# Altium integrated library WCAP-PSLP.IntLib: 57 symbols (part 1 of 2)
Pins are listed as number, name and electrical type; pins without a type are passive.

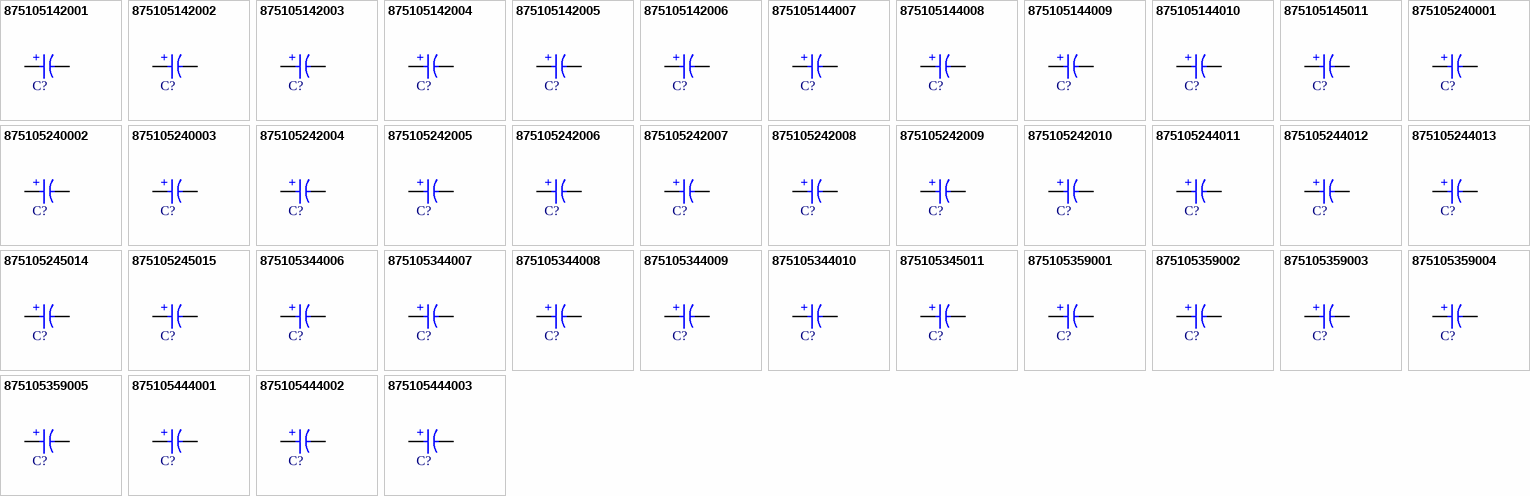
[diagram p0: symbols 875105142001 to 875105444003]

## 875105142001
designator C?, comment 47µF  (value not drawn)
WCAP-PSLP Aluminum Polymer Capacitor, V-Chip SMT, D5 x H5.5mm, 47µF, 6.3V; Manufacturer Part Number: 875105142001; Manufacturer: Wurth Elektronik; Capacitance Tolerance: +/-20%; Dissipation Factor: 8%; Endurance: 2000h; ESR: 30mΩ; Leakage Current: 300µA; Ripple Current: 1970mA; Technical Reference: PSEC055470M6R3DVCTBB000; Category: Aluminum Polymer Capacitors; Match Code: WCAP-PSLP; ComponentLink1Description: Website Link; ComponentLink1URL: https://www.we-online.com/redexpert/article/875105142001?ad; ComponentLink2Description: Datasheet Link; ComponentLink2URL: https://www.we-online.com/redexpert/spec/875105142001?ad; Mount: Surface Mount; Operating Temperature Max: 105°C; Operating Temperature Min: -55°C; Packaging: Tape and Reel; Height: 5.5mm; Diameter: 5mm; Capacitance: 47µF; Rated Voltage (DC): 6.3V
footprint WCAP-PSLP_D5H5.5
simulation model 875105142001_47uF
pins: 1 P, 2 N
text: +

## 875105142002
designator C?, comment 56µF  (value not drawn)
WCAP-PSLP Aluminum Polymer Capacitor, V-Chip SMT, D5 x H5.5mm, 56µF, 6.3V; Manufacturer Part Number: 875105142002; Manufacturer: Wurth Elektronik; Capacitance Tolerance: +/-20%; Dissipation Factor: 8%; Endurance: 2000h; ESR: 30mΩ; Leakage Current: 300µA; Ripple Current: 1970mA; Technical Reference: PSEC055560M6R3DVCTBB000; Category: Aluminum Polymer Capacitors; Match Code: WCAP-PSLP; ComponentLink1Description: Website Link; ComponentLink1URL: https://www.we-online.com/redexpert/article/875105142002?ad; ComponentLink2Description: Datasheet Link; ComponentLink2URL: https://www.we-online.com/redexpert/spec/875105142002?ad; Mount: Surface Mount; Operating Temperature Max: 105°C; Operating Temperature Min: -55°C; Packaging: Tape and Reel; Height: 5.5mm; Diameter: 5mm; Capacitance: 56µF; Rated Voltage (DC): 6.3V
footprint WCAP-PSLP_D5H5.5
simulation model 875105142002_56uF
pins: 1 P, 2 N
text: +

## 875105142003
designator C?, comment 68µF  (value not drawn)
WCAP-PSLP Aluminum Polymer Capacitor, V-Chip SMT, D5 x H5.5mm, 68µF, 6.3V; Manufacturer Part Number: 875105142003; Manufacturer: Wurth Elektronik; Capacitance Tolerance: +/-20%; Dissipation Factor: 8%; Endurance: 2000h; ESR: 30mΩ; Leakage Current: 300µA; Ripple Current: 1970mA; Technical Reference: PSEC055680M6R3DVCTBB000; Category: Aluminum Polymer Capacitors; Match Code: WCAP-PSLP; ComponentLink1Description: Website Link; ComponentLink1URL: https://www.we-online.com/redexpert/article/875105142003?ad; ComponentLink2Description: Datasheet Link; ComponentLink2URL: https://www.we-online.com/redexpert/spec/875105142003?ad; Mount: Surface Mount; Operating Temperature Max: 105°C; Operating Temperature Min: -55°C; Packaging: Tape and Reel; Height: 5.5mm; Diameter: 5mm; Capacitance: 68µF; Rated Voltage (DC): 6.3V
footprint WCAP-PSLP_D5H5.5
simulation model 875105142003_68uF
pins: 1 P, 2 N
text: +

## 875105142004
designator C?, comment 82µF  (value not drawn)
WCAP-PSLP Aluminum Polymer Capacitor, V-Chip SMT, D5 x H5.5mm, 82µF, 6.3V; Manufacturer Part Number: 875105142004; Manufacturer: Wurth Elektronik; Capacitance Tolerance: +/-20%; Dissipation Factor: 8%; Endurance: 2000h; ESR: 30mΩ; Leakage Current: 300µA; Ripple Current: 1970mA; Technical Reference: PSEC055820M6R3DVCTBB000; Category: Aluminum Polymer Capacitors; Match Code: WCAP-PSLP; ComponentLink1Description: Website Link; ComponentLink1URL: https://www.we-online.com/redexpert/article/875105142004?ad; ComponentLink2Description: Datasheet Link; ComponentLink2URL: https://www.we-online.com/redexpert/spec/875105142004?ad; Mount: Surface Mount; Operating Temperature Max: 105°C; Operating Temperature Min: -55°C; Packaging: Tape and Reel; Height: 5.5mm; Diameter: 5mm; Capacitance: 82µF; Rated Voltage (DC): 6.3V
footprint WCAP-PSLP_D5H5.5
simulation model 875105142004_82uF
pins: 1 P, 2 N
text: +

## 875105142005
designator C?, comment 100µF  (value not drawn)
WCAP-PSLP Aluminum Polymer Capacitor, V-Chip SMT, D5 x H5.5mm, 100µF, 6.3V; Manufacturer Part Number: 875105142005; Manufacturer: Wurth Elektronik; Capacitance Tolerance: +/-20%; Dissipation Factor: 8%; Endurance: 2000h; ESR: 30mΩ; Leakage Current: 300µA; Ripple Current: 1970mA; Technical Reference: PSEC055101M6R3DVCTBB000; Category: Aluminum Polymer Capacitors; Match Code: WCAP-PSLP; ComponentLink1Description: Website Link; ComponentLink1URL: https://www.we-online.com/redexpert/article/875105142005?ad; ComponentLink2Description: Datasheet Link; ComponentLink2URL: https://www.we-online.com/redexpert/spec/875105142005?ad; Mount: Surface Mount; Operating Temperature Max: 105°C; Operating Temperature Min: -55°C; Packaging: Tape and Reel; Height: 5.5mm; Diameter: 5mm; Capacitance: 100µF; Rated Voltage (DC): 6.3V
footprint WCAP-PSLP_D5H5.5
simulation model 875105142005_100uF
pins: 1 P, 2 N
text: +

## 875105142006
designator C?, comment 150µF  (value not drawn)
WCAP-PSLP Aluminum Polymer Capacitor, V-Chip SMT, D5 x H5.5mm, 150µF, 6.3V; Manufacturer Part Number: 875105142006; Manufacturer: Wurth Elektronik; Capacitance Tolerance: +/-20%; Dissipation Factor: 8%; Endurance: 2000h; ESR: 30mΩ; Leakage Current: 300µA; Ripple Current: 1970mA; Technical Reference: PSEC055151M6R3DVCTBB000; Category: Aluminum Polymer Capacitors; Match Code: WCAP-PSLP; ComponentLink1Description: Website Link; ComponentLink1URL: https://www.we-online.com/redexpert/article/875105142006?ad; ComponentLink2Description: Datasheet Link; ComponentLink2URL: https://www.we-online.com/redexpert/spec/875105142006?ad; Mount: Surface Mount; Operating Temperature Max: 105°C; Operating Temperature Min: -55°C; Packaging: Tape and Reel; Height: 5.5mm; Diameter: 5mm; Capacitance: 150µF; Rated Voltage (DC): 6.3V
footprint WCAP-PSLP_D5H5.5
simulation model 875105142006_150uF
pins: 1 P, 2 N
text: +

## 875105144007
designator C?, comment 180µF  (value not drawn)
WCAP-PSLP Aluminum Polymer Capacitor, V-Chip SMT, D6.3 x H5.8mm, 180µF, 6.3V; Manufacturer Part Number: 875105144007; Manufacturer: Wurth Elektronik; Capacitance Tolerance: +/-20%; Dissipation Factor: 8%; Endurance: 2000h; ESR: 20mΩ; Leakage Current: 300µA; Ripple Current: 2390mA; Technical Reference: PSED058181M6R3DVCTBB000; Category: Aluminum Polymer Capacitors; Match Code: WCAP-PSLP; ComponentLink1Description: Website Link; ComponentLink1URL: https://www.we-online.com/redexpert/article/875105144007?ad; ComponentLink2Description: Datasheet Link; ComponentLink2URL: https://www.we-online.com/redexpert/spec/875105144007?ad; Mount: Surface Mount; Operating Temperature Max: 105°C; Operating Temperature Min: -55°C; Packaging: Tape and Reel; Height: 5.8mm; Diameter: 6.3mm; Capacitance: 180µF; Rated Voltage (DC): 6.3V
footprint WCAP-PSLP_D6.3H5.8
simulation model 875105144007_180uF
pins: 1 P, 2 N
text: +

## 875105144008
designator C?, comment 220µF  (value not drawn)
WCAP-PSLP Aluminum Polymer Capacitor, V-Chip SMT, D6.3 x H5.8mm, 220µF, 6.3V; Manufacturer Part Number: 875105144008; Manufacturer: Wurth Elektronik; Capacitance Tolerance: +/-20%; Dissipation Factor: 8%; Endurance: 2000h; ESR: 20mΩ; Leakage Current: 300µA; Ripple Current: 3000mA; Technical Reference: PSED058221M6R3DVCTBB000; Category: Aluminum Polymer Capacitors; Match Code: WCAP-PSLP; ComponentLink1Description: Website Link; ComponentLink1URL: https://www.we-online.com/redexpert/article/875105144008?ad; ComponentLink2Description: Datasheet Link; ComponentLink2URL: https://www.we-online.com/redexpert/spec/875105144008?ad; Mount: Surface Mount; Operating Temperature Max: 105°C; Operating Temperature Min: -55°C; Packaging: Tape and Reel; Height: 5.8mm; Diameter: 6.3mm; Capacitance: 220µF; Rated Voltage (DC): 6.3V
footprint WCAP-PSLP_D6.3H5.8
simulation model 875105144008_220uF
pins: 1 P, 2 N
text: +

## 875105144009
designator C?, comment 270µF  (value not drawn)
WCAP-PSLP Aluminum Polymer Capacitor, V-Chip SMT, D6.3 x H5.8mm, 270µF, 6.3V; Manufacturer Part Number: 875105144009; Manufacturer: Wurth Elektronik; Capacitance Tolerance: +/-20%; Dissipation Factor: 8%; Endurance: 2000h; ESR: 20mΩ; Leakage Current: 300µA; Ripple Current: 3000mA; Technical Reference: PSED058271M6R3DVCTBB000; Category: Aluminum Polymer Capacitors; Match Code: WCAP-PSLP; ComponentLink1Description: Website Link; ComponentLink1URL: https://www.we-online.com/redexpert/article/875105144009?ad; ComponentLink2Description: Datasheet Link; ComponentLink2URL: https://www.we-online.com/redexpert/spec/875105144009?ad; Mount: Surface Mount; Operating Temperature Max: 105°C; Operating Temperature Min: -55°C; Packaging: Tape and Reel; Height: 5.8mm; Diameter: 6.3mm; Capacitance: 270µF; Rated Voltage (DC): 6.3V
footprint WCAP-PSLP_D6.3H5.8
simulation model 875105144009_270uF
pins: 1 P, 2 N
text: +

## 875105144010
designator C?, comment 330µF  (value not drawn)
WCAP-PSLP Aluminum Polymer Capacitor, V-Chip SMT, D6.3 x H5.8mm, 330µF, 6.3V; Manufacturer Part Number: 875105144010; Manufacturer: Wurth Elektronik; Capacitance Tolerance: +/-20%; Dissipation Factor: 8%; Endurance: 2000h; ESR: 20mΩ; Leakage Current: 300µA; Ripple Current: 3100mA; Technical Reference: PSED058331M6R3DVCTBB000; Category: Aluminum Polymer Capacitors; Match Code: WCAP-PSLP; ComponentLink1Description: Website Link; ComponentLink1URL: https://www.we-online.com/redexpert/article/875105144010?ad; ComponentLink2Description: Datasheet Link; ComponentLink2URL: https://www.we-online.com/redexpert/spec/875105144010?ad; Mount: Surface Mount; Operating Temperature Max: 105°C; Operating Temperature Min: -55°C; Packaging: Tape and Reel; Height: 5.8mm; Diameter: 6.3mm; Capacitance: 330µF; Rated Voltage (DC): 6.3V
footprint WCAP-PSLP_D6.3H5.8
simulation model 875105144010_330uF
pins: 1 P, 2 N
text: +

## 875105145011
designator C?, comment 390µF  (value not drawn)
WCAP-PSLP Aluminum Polymer Capacitor, V-Chip SMT, D6.3 x H7.7mm, 390µF, 6.3V; Manufacturer Part Number: 875105145011; Manufacturer: Wurth Elektronik; Capacitance Tolerance: +/-20%; Dissipation Factor: 8%; Endurance: 2000h; ESR: 15mΩ; Leakage Current: 300µA; Ripple Current: 3400mA; Technical Reference: PSED077391M6R3DVCTCB000; Category: Aluminum Polymer Capacitors; Match Code: WCAP-PSLP; ComponentLink1Description: Website Link; ComponentLink1URL: https://www.we-online.com/redexpert/article/875105145011?ad; ComponentLink2Description: Datasheet Link; ComponentLink2URL: https://www.we-online.com/redexpert/spec/875105145011?ad; Mount: Surface Mount; Operating Temperature Max: 105°C; Operating Temperature Min: -55°C; Packaging: Tape and Reel; Height: 7.7mm; Diameter: 6.3mm; Capacitance: 390µF; Rated Voltage (DC): 6.3V
footprint WCAP-PSLP_D6.3H7.7
simulation model 875105145011_390uF
pins: 1 P, 2 N
text: +

## 875105240001
designator C?, comment 10µF  (value not drawn)
WCAP-PSLP Aluminum Polymer Capacitor, V-Chip SMT, D4 x H5.5mm, 10µF, 10V; Manufacturer Part Number: 875105240001; Manufacturer: Wurth Elektronik; Capacitance Tolerance: +/-20%; Dissipation Factor: 8%; Endurance: 2000h; ESR: 45mΩ; Leakage Current: 300µA; Ripple Current: 1200mA; Technical Reference: PSEB055100M010DVCTAB000; Category: Aluminum Polymer Capacitors; Match Code: WCAP-PSLP; ComponentLink1Description: Website Link; ComponentLink1URL: https://www.we-online.com/redexpert/article/875105240001?ad; ComponentLink2Description: Datasheet Link; ComponentLink2URL: https://www.we-online.com/redexpert/spec/875105240001?ad; Mount: Surface Mount; Operating Temperature Max: 105°C; Operating Temperature Min: -55°C; Packaging: Tape and Reel; Height: 5.5mm; Diameter: 4mm; Capacitance: 10µF; Rated Voltage (DC): 10V
footprint WCAP-PSLP_D4H5.5
simulation model 875105240001_10uF
pins: 1 P, 2 N
text: +

## 875105240002
designator C?, comment 15µF  (value not drawn)
WCAP-PSLP Aluminum Polymer Capacitor, V-Chip SMT, D4 x H5.5mm, 15µF, 10V; Manufacturer Part Number: 875105240002; Manufacturer: Wurth Elektronik; Capacitance Tolerance: +/-20%; Dissipation Factor: 8%; Endurance: 2000h; ESR: 45mΩ; Leakage Current: 300µA; Ripple Current: 1200mA; Technical Reference: PSEB055150M010DVCTAB000; Category: Aluminum Polymer Capacitors; Match Code: WCAP-PSLP; ComponentLink1Description: Website Link; ComponentLink1URL: https://www.we-online.com/redexpert/article/875105240002?ad; ComponentLink2Description: Datasheet Link; ComponentLink2URL: https://www.we-online.com/redexpert/spec/875105240002?ad; Mount: Surface Mount; Operating Temperature Max: 105°C; Operating Temperature Min: -55°C; Packaging: Tape and Reel; Height: 5.5mm; Diameter: 4mm; Capacitance: 15µF; Rated Voltage (DC): 10V
footprint WCAP-PSLP_D4H5.5
simulation model 875105240002_15uF
pins: 1 P, 2 N
text: +

## 875105240003
designator C?, comment 22µF  (value not drawn)
WCAP-PSLP Aluminum Polymer Capacitor, V-Chip SMT, D4 x H5.5mm, 22µF, 10V; Manufacturer Part Number: 875105240003; Manufacturer: Wurth Elektronik; Capacitance Tolerance: +/-20%; Dissipation Factor: 8%; Endurance: 2000h; ESR: 45mΩ; Leakage Current: 300µA; Ripple Current: 1200mA; Technical Reference: PSEB055220M010DVCTAB000; Category: Aluminum Polymer Capacitors; Match Code: WCAP-PSLP; ComponentLink1Description: Website Link; ComponentLink1URL: https://www.we-online.com/redexpert/article/875105240003?ad; ComponentLink2Description: Datasheet Link; ComponentLink2URL: https://www.we-online.com/redexpert/spec/875105240003?ad; Mount: Surface Mount; Operating Temperature Max: 105°C; Operating Temperature Min: -55°C; Packaging: Tape and Reel; Height: 5.5mm; Diameter: 4mm; Capacitance: 22µF; Rated Voltage (DC): 10V
footprint WCAP-PSLP_D4H5.5
simulation model 875105240003_22uF
pins: 1 P, 2 N
text: +

## 875105242004
designator C?, comment 33µF  (value not drawn)
WCAP-PSLP Aluminum Polymer Capacitor, V-Chip SMT, D5 x H5.5mm, 33µF, 10V; Manufacturer Part Number: 875105242004; Manufacturer: Wurth Elektronik; Capacitance Tolerance: +/-20%; Dissipation Factor: 8%; Endurance: 2000h; ESR: 30mΩ; Leakage Current: 300µA; Ripple Current: 1970mA; Technical Reference: PSEC055330M010DVCTBB000; Category: Aluminum Polymer Capacitors; Match Code: WCAP-PSLP; ComponentLink1Description: Website Link; ComponentLink1URL: https://www.we-online.com/redexpert/article/875105242004?ad; ComponentLink2Description: Datasheet Link; ComponentLink2URL: https://www.we-online.com/redexpert/spec/875105242004?ad; Mount: Surface Mount; Operating Temperature Max: 105°C; Operating Temperature Min: -55°C; Packaging: Tape and Reel; Height: 5.5mm; Diameter: 5mm; Capacitance: 33µF; Rated Voltage (DC): 10V
footprint WCAP-PSLP_D5H5.5
simulation model 875105242004_33uF
pins: 1 P, 2 N
text: +

## 875105242005
designator C?, comment 39µF  (value not drawn)
WCAP-PSLP Aluminum Polymer Capacitor, V-Chip SMT, D5 x H5.5mm, 39µF, 10V; Manufacturer Part Number: 875105242005; Manufacturer: Wurth Elektronik; Capacitance Tolerance: +/-20%; Dissipation Factor: 8%; Endurance: 2000h; ESR: 30mΩ; Leakage Current: 300µA; Ripple Current: 1970mA; Technical Reference: PSEC055390M010DVCTBB000; Category: Aluminum Polymer Capacitors; Match Code: WCAP-PSLP; ComponentLink1Description: Website Link; ComponentLink1URL: https://www.we-online.com/redexpert/article/875105242005?ad; ComponentLink2Description: Datasheet Link; ComponentLink2URL: https://www.we-online.com/redexpert/spec/875105242005?ad; Mount: Surface Mount; Operating Temperature Max: 105°C; Operating Temperature Min: -55°C; Packaging: Tape and Reel; Height: 5.5mm; Diameter: 5mm; Capacitance: 39µF; Rated Voltage (DC): 10V
footprint WCAP-PSLP_D5H5.5
simulation model 875105242005_39uF
pins: 1 P, 2 N
text: +

## 875105242006
designator C?, comment 47µF  (value not drawn)
WCAP-PSLP Aluminum Polymer Capacitor, V-Chip SMT, D5 x H5.5mm, 47µF, 10V; Manufacturer Part Number: 875105242006; Manufacturer: Wurth Elektronik; Capacitance Tolerance: +/-20%; Dissipation Factor: 8%; Endurance: 2000h; ESR: 30mΩ; Leakage Current: 300µA; Ripple Current: 1970mA; Technical Reference: PSEC055470M010DVCTBB000; Category: Aluminum Polymer Capacitors; Match Code: WCAP-PSLP; ComponentLink1Description: Website Link; ComponentLink1URL: https://www.we-online.com/redexpert/article/875105242006?ad; ComponentLink2Description: Datasheet Link; ComponentLink2URL: https://www.we-online.com/redexpert/spec/875105242006?ad; Mount: Surface Mount; Operating Temperature Max: 105°C; Operating Temperature Min: -55°C; Packaging: Tape and Reel; Height: 5.5mm; Diameter: 5mm; Capacitance: 47µF; Rated Voltage (DC): 10V
footprint WCAP-PSLP_D5H5.5
simulation model 875105242006_47uF
pins: 1 P, 2 N
text: +

## 875105242007
designator C?, comment 56µF  (value not drawn)
WCAP-PSLP Aluminum Polymer Capacitor, V-Chip SMT, D5 x H5.5mm, 56µF, 10V; Manufacturer Part Number: 875105242007; Manufacturer: Wurth Elektronik; Capacitance Tolerance: +/-20%; Dissipation Factor: 8%; Endurance: 2000h; ESR: 30mΩ; Leakage Current: 300µA; Ripple Current: 1970mA; Technical Reference: PSEC055560M010DVCTBB000; Category: Aluminum Polymer Capacitors; Match Code: WCAP-PSLP; ComponentLink1Description: Website Link; ComponentLink1URL: https://www.we-online.com/redexpert/article/875105242007?ad; ComponentLink2Description: Datasheet Link; ComponentLink2URL: https://www.we-online.com/redexpert/spec/875105242007?ad; Mount: Surface Mount; Operating Temperature Max: 105°C; Operating Temperature Min: -55°C; Packaging: Tape and Reel; Height: 5.5mm; Diameter: 5mm; Capacitance: 56µF; Rated Voltage (DC): 10V
footprint WCAP-PSLP_D5H5.5
simulation model 875105242007_56uF
pins: 1 P, 2 N
text: +

## 875105242008
designator C?, comment 68µF  (value not drawn)
WCAP-PSLP Aluminum Polymer Capacitor, V-Chip SMT, D5 x H5.5mm, 68µF, 10V; Manufacturer Part Number: 875105242008; Manufacturer: Wurth Elektronik; Capacitance Tolerance: +/-20%; Dissipation Factor: 8%; Endurance: 2000h; ESR: 30mΩ; Leakage Current: 300µA; Ripple Current: 1970mA; Technical Reference: PSEC055680M010DVCTBB000; Category: Aluminum Polymer Capacitors; Match Code: WCAP-PSLP; ComponentLink1Description: Website Link; ComponentLink1URL: https://www.we-online.com/redexpert/article/875105242008?ad; ComponentLink2Description: Datasheet Link; ComponentLink2URL: https://www.we-online.com/redexpert/spec/875105242008?ad; Mount: Surface Mount; Operating Temperature Max: 105°C; Operating Temperature Min: -55°C; Packaging: Tape and Reel; Height: 5.5mm; Diameter: 5mm; Capacitance: 68µF; Rated Voltage (DC): 10V
footprint WCAP-PSLP_D5H5.5
simulation model 875105242008_68uF
pins: 1 P, 2 N
text: +

## 875105242009
designator C?, comment 82µF  (value not drawn)
WCAP-PSLP Aluminum Polymer Capacitor, V-Chip SMT, D5 x H5.5mm, 82µF, 10V; Manufacturer Part Number: 875105242009; Manufacturer: Wurth Elektronik; Capacitance Tolerance: +/-20%; Dissipation Factor: 8%; Endurance: 2000h; ESR: 30mΩ; Leakage Current: 300µA; Ripple Current: 1970mA; Technical Reference: PSEC055820M010DVCTBB000; Category: Aluminum Polymer Capacitors; Match Code: WCAP-PSLP; ComponentLink1Description: Website Link; ComponentLink1URL: https://www.we-online.com/redexpert/article/875105242009?ad; ComponentLink2Description: Datasheet Link; ComponentLink2URL: https://www.we-online.com/redexpert/spec/875105242009?ad; Mount: Surface Mount; Operating Temperature Max: 105°C; Operating Temperature Min: -55°C; Packaging: Tape and Reel; Height: 5.5mm; Diameter: 5mm; Capacitance: 82µF; Rated Voltage (DC): 10V
footprint WCAP-PSLP_D5H5.5
simulation model 875105242009_82uF
pins: 1 P, 2 N
text: +

## 875105242010
designator C?, comment 100µF  (value not drawn)
WCAP-PSLP Aluminum Polymer Capacitor, V-Chip SMT, D5 x H5.5mm, 100µF, 10V; Manufacturer Part Number: 875105242010; Manufacturer: Wurth Elektronik; Capacitance Tolerance: +/-20%; Dissipation Factor: 8%; Endurance: 2000h; ESR: 30mΩ; Leakage Current: 300µA; Ripple Current: 1970mA; Technical Reference: PSEC055101M010DVCTBB000; Category: Aluminum Polymer Capacitors; Match Code: WCAP-PSLP; ComponentLink1Description: Website Link; ComponentLink1URL: https://www.we-online.com/redexpert/article/875105242010?ad; ComponentLink2Description: Datasheet Link; ComponentLink2URL: https://www.we-online.com/redexpert/spec/875105242010?ad; Mount: Surface Mount; Operating Temperature Max: 105°C; Operating Temperature Min: -55°C; Packaging: Tape and Reel; Height: 5.5mm; Diameter: 5mm; Capacitance: 100µF; Rated Voltage (DC): 10V
footprint WCAP-PSLP_D5H5.5
simulation model 875105242010_100uF
pins: 1 P, 2 N
text: +

## 875105244011
designator C?, comment 150µF  (value not drawn)
WCAP-PSLP Aluminum Polymer Capacitor, V-Chip SMT, D6.3 x H5.8mm, 150µF, 10V; Manufacturer Part Number: 875105244011; Manufacturer: Wurth Elektronik; Capacitance Tolerance: +/-20%; Dissipation Factor: 8%; Endurance: 2000h; ESR: 30mΩ; Leakage Current: 300µA; Ripple Current: 2200mA; Technical Reference: PSED058151M010DVCTBB000; Category: Aluminum Polymer Capacitors; Match Code: WCAP-PSLP; ComponentLink1Description: Website Link; ComponentLink1URL: https://www.we-online.com/redexpert/article/875105244011?ad; ComponentLink2Description: Datasheet Link; ComponentLink2URL: https://www.we-online.com/redexpert/spec/875105244011?ad; Mount: Surface Mount; Operating Temperature Max: 105°C; Operating Temperature Min: -55°C; Packaging: Tape and Reel; Height: 5.8mm; Diameter: 6.3mm; Capacitance: 150µF; Rated Voltage (DC): 10V
footprint WCAP-PSLP_D6.3H5.8
simulation model 875105244011_150uF
pins: 1 P, 2 N
text: +

## 875105244012
designator C?, comment 180µF  (value not drawn)
WCAP-PSLP Aluminum Polymer Capacitor, V-Chip SMT, D6.3 x H5.8mm, 180µF, 10V; Manufacturer Part Number: 875105244012; Manufacturer: Wurth Elektronik; Capacitance Tolerance: +/-20%; Dissipation Factor: 8%; Endurance: 2000h; ESR: 30mΩ; Leakage Current: 300µA; Ripple Current: 1970mA; Technical Reference: PSED058181M010DVCTBB000; Category: Aluminum Polymer Capacitors; Match Code: WCAP-PSLP; ComponentLink1Description: Website Link; ComponentLink1URL: https://www.we-online.com/redexpert/article/875105244012?ad; ComponentLink2Description: Datasheet Link; ComponentLink2URL: https://www.we-online.com/redexpert/spec/875105244012?ad; Mount: Surface Mount; Operating Temperature Max: 105°C; Operating Temperature Min: -55°C; Packaging: Tape and Reel; Height: 5.8mm; Diameter: 6.3mm; Capacitance: 180µF; Rated Voltage (DC): 10V
footprint WCAP-PSLP_D6.3H5.8
simulation model 875105244012_180uF
pins: 1 P, 2 N
text: +

## 875105244013
designator C?, comment 220µF  (value not drawn)
WCAP-PSLP Aluminum Polymer Capacitor, V-Chip SMT, D6.3 x H5.8mm, 220µF, 10V; Manufacturer Part Number: 875105244013; Manufacturer: Wurth Elektronik; Capacitance Tolerance: +/-20%; Dissipation Factor: 8%; Endurance: 2000h; ESR: 30mΩ; Leakage Current: 300µA; Ripple Current: 1970mA; Technical Reference: PSED058221M010DVCTBB000; Category: Aluminum Polymer Capacitors; Match Code: WCAP-PSLP; ComponentLink1Description: Website Link; ComponentLink1URL: https://www.we-online.com/redexpert/article/875105244013?ad; ComponentLink2Description: Datasheet Link; ComponentLink2URL: https://www.we-online.com/redexpert/spec/875105244013?ad; Mount: Surface Mount; Operating Temperature Max: 105°C; Operating Temperature Min: -55°C; Packaging: Tape and Reel; Height: 5.8mm; Diameter: 6.3mm; Capacitance: 220µF; Rated Voltage (DC): 10V
footprint WCAP-PSLP_D6.3H5.8
simulation model 875105244013_220uF
pins: 1 P, 2 N
text: +

## 875105245014
designator C?, comment 270µF  (value not drawn)
WCAP-PSLP Aluminum Polymer Capacitor, V-Chip SMT, D6.3 x H7.7mm, 270µF, 10V; Manufacturer Part Number: 875105245014; Manufacturer: Wurth Elektronik; Capacitance Tolerance: +/-20%; Dissipation Factor: 8%; Endurance: 2000h; ESR: 20mΩ; Leakage Current: 300µA; Ripple Current: 2690mA; Technical Reference: PSED077271M010DVCTCB000; Category: Aluminum Polymer Capacitors; Match Code: WCAP-PSLP; ComponentLink1Description: Website Link; ComponentLink1URL: https://www.we-online.com/redexpert/article/875105245014?ad; ComponentLink2Description: Datasheet Link; ComponentLink2URL: https://www.we-online.com/redexpert/spec/875105245014?ad; Mount: Surface Mount; Operating Temperature Max: 105°C; Operating Temperature Min: -55°C; Packaging: Tape and Reel; Height: 7.7mm; Diameter: 6.3mm; Capacitance: 270µF; Rated Voltage (DC): 10V
footprint WCAP-PSLP_D6.3H7.7
simulation model 875105245014_270uF
pins: 1 P, 2 N
text: +

## 875105245015
designator C?, comment 330µF  (value not drawn)
WCAP-PSLP Aluminum Polymer Capacitor, V-Chip SMT, D6.3 x H7.7mm, 330µF, 10V; Manufacturer Part Number: 875105245015; Manufacturer: Wurth Elektronik; Capacitance Tolerance: +/-20%; Dissipation Factor: 8%; Endurance: 2000h; ESR: 20mΩ; Leakage Current: 300µA; Ripple Current: 2690mA; Technical Reference: PSED077331M010DVCTCB000; Category: Aluminum Polymer Capacitors; Match Code: WCAP-PSLP; ComponentLink1Description: Website Link; ComponentLink1URL: https://www.we-online.com/redexpert/article/875105245015?ad; ComponentLink2Description: Datasheet Link; ComponentLink2URL: https://www.we-online.com/redexpert/spec/875105245015?ad; Mount: Surface Mount; Operating Temperature Max: 105°C; Operating Temperature Min: -55°C; Packaging: Tape and Reel; Height: 7.7mm; Diameter: 6.3mm; Capacitance: 330µF; Rated Voltage (DC): 10V
footprint WCAP-PSLP_D6.3H7.7
simulation model 875105245015_330uF
pins: 1 P, 2 N
text: +

## 875105344006
designator C?, comment 47µF  (value not drawn)
WCAP-PSLP Aluminum Polymer Capacitor, V-Chip SMT, D6.3 x H5.8mm, 47µF, 16V; Manufacturer Part Number: 875105344006; Manufacturer: Wurth Elektronik; Capacitance Tolerance: +/-20%; Dissipation Factor: 8%; Endurance: 2000h; ESR: 30mΩ; Leakage Current: 400µA; Ripple Current: 2200mA; Technical Reference: PSED058470M016DVCTBB000; Category: Aluminum Polymer Capacitors; Match Code: WCAP-PSLP; ComponentLink1Description: Website Link; ComponentLink1URL: https://www.we-online.com/redexpert/article/875105344006?ad; ComponentLink2Description: Datasheet Link; ComponentLink2URL: https://www.we-online.com/redexpert/spec/875105344006?ad; Mount: Surface Mount; Operating Temperature Max: 105°C; Operating Temperature Min: -55°C; Packaging: Tape and Reel; Height: 5.8mm; Diameter: 6.3mm; Capacitance: 47µF; Rated Voltage (DC): 16V
footprint WCAP-PSLP_D6.3H5.8
simulation model 875105344006_47uF
pins: 1 P, 2 N
text: +

## 875105344007
designator C?, comment 56µF  (value not drawn)
WCAP-PSLP Aluminum Polymer Capacitor, V-Chip SMT, D6.3 x H5.8mm, 56µF, 16V; Manufacturer Part Number: 875105344007; Manufacturer: Wurth Elektronik; Capacitance Tolerance: +/-20%; Dissipation Factor: 8%; Endurance: 2000h; ESR: 30mΩ; Leakage Current: 400µA; Ripple Current: 2200mA; Technical Reference: PSED058560M016DVCTBB000; Category: Aluminum Polymer Capacitors; Match Code: WCAP-PSLP; ComponentLink1Description: Website Link; ComponentLink1URL: https://www.we-online.com/redexpert/article/875105344007?ad; ComponentLink2Description: Datasheet Link; ComponentLink2URL: https://www.we-online.com/redexpert/spec/875105344007?ad; Mount: Surface Mount; Operating Temperature Max: 105°C; Operating Temperature Min: -55°C; Packaging: Tape and Reel; Height: 5.8mm; Diameter: 6.3mm; Capacitance: 56µF; Rated Voltage (DC): 16V
footprint WCAP-PSLP_D6.3H5.8
simulation model 875105344007_56uF
pins: 1 P, 2 N
text: +

## 875105344008
designator C?, comment 68µF  (value not drawn)
WCAP-PSLP Aluminum Polymer Capacitor, V-Chip SMT, D6.3 x H5.8mm, 68µF, 16V; Manufacturer Part Number: 875105344008; Manufacturer: Wurth Elektronik; Capacitance Tolerance: +/-20%; Dissipation Factor: 8%; Endurance: 2000h; ESR: 30mΩ; Leakage Current: 400µA; Ripple Current: 2200mA; Technical Reference: PSED058680M016DVCTBB000; Category: Aluminum Polymer Capacitors; Match Code: WCAP-PSLP; ComponentLink1Description: Website Link; ComponentLink1URL: https://www.we-online.com/redexpert/article/875105344008?ad; ComponentLink2Description: Datasheet Link; ComponentLink2URL: https://www.we-online.com/redexpert/spec/875105344008?ad; Mount: Surface Mount; Operating Temperature Max: 105°C; Operating Temperature Min: -55°C; Packaging: Tape and Reel; Height: 5.8mm; Diameter: 6.3mm; Capacitance: 68µF; Rated Voltage (DC): 16V
footprint WCAP-PSLP_D6.3H5.8
simulation model 875105344008_68uF
pins: 1 P, 2 N
text: +

## 875105344009
designator C?, comment 82µF  (value not drawn)
WCAP-PSLP Aluminum Polymer Capacitor, V-Chip SMT, D6.3 x H5.8mm, 82µF, 16V; Manufacturer Part Number: 875105344009; Manufacturer: Wurth Elektronik; Capacitance Tolerance: +/-20%; Dissipation Factor: 8%; Endurance: 2000h; ESR: 30mΩ; Leakage Current: 400µA; Ripple Current: 2200mA; Technical Reference: PSED058820M016DVCTBB000; Category: Aluminum Polymer Capacitors; Match Code: WCAP-PSLP; ComponentLink1Description: Website Link; ComponentLink1URL: https://www.we-online.com/redexpert/article/875105344009?ad; ComponentLink2Description: Datasheet Link; ComponentLink2URL: https://www.we-online.com/redexpert/spec/875105344009?ad; Mount: Surface Mount; Operating Temperature Max: 105°C; Operating Temperature Min: -55°C; Packaging: Tape and Reel; Height: 5.8mm; Diameter: 6.3mm; Capacitance: 82µF; Rated Voltage (DC): 16V
footprint WCAP-PSLP_D6.3H5.8
simulation model 875105344009_82uF
pins: 1 P, 2 N
text: +

## 875105344010
designator C?, comment 100µF  (value not drawn)
WCAP-PSLP Aluminum Polymer Capacitor, V-Chip SMT, D6.3 x H5.8mm, 100µF, 16V; Manufacturer Part Number: 875105344010; Manufacturer: Wurth Elektronik; Capacitance Tolerance: +/-20%; Dissipation Factor: 8%; Endurance: 2000h; ESR: 20mΩ; Leakage Current: 400µA; Ripple Current: 2690mA; Technical Reference: PSED058101M016DVCTBB000; Category: Aluminum Polymer Capacitors; Match Code: WCAP-PSLP; ComponentLink1Description: Website Link; ComponentLink1URL: https://www.we-online.com/redexpert/article/875105344010?ad; ComponentLink2Description: Datasheet Link; ComponentLink2URL: https://www.we-online.com/redexpert/spec/875105344010?ad; Mount: Surface Mount; Operating Temperature Max: 105°C; Operating Temperature Min: -55°C; Packaging: Tape and Reel; Height: 5.8mm; Diameter: 6.3mm; Capacitance: 100µF; Rated Voltage (DC): 16V
footprint WCAP-PSLP_D6.3H5.8
simulation model 875105344010_100uF
pins: 1 P, 2 N
text: +

## 875105345011
designator C?, comment 150µF  (value not drawn)
WCAP-PSLP Aluminum Polymer Capacitor, V-Chip SMT, D6.3 x H7.7mm, 150µF, 16V; Manufacturer Part Number: 875105345011; Manufacturer: Wurth Elektronik; Capacitance Tolerance: +/-20%; Dissipation Factor: 8%; Endurance: 2000h; ESR: 20mΩ; Leakage Current: 400µA; Ripple Current: 2690mA; Technical Reference: PSED077151M016DVCTCB000; Category: Aluminum Polymer Capacitors; Match Code: WCAP-PSLP; ComponentLink1Description: Website Link; ComponentLink1URL: https://www.we-online.com/redexpert/article/875105345011?ad; ComponentLink2Description: Datasheet Link; ComponentLink2URL: https://www.we-online.com/redexpert/spec/875105345011?ad; Mount: Surface Mount; Operating Temperature Max: 105°C; Operating Temperature Min: -55°C; Packaging: Tape and Reel; Height: 7.7mm; Diameter: 6.3mm; Capacitance: 150µF; Rated Voltage (DC): 16V
footprint WCAP-PSLP_D6.3H7.7
simulation model 875105345011_150uF
pins: 1 P, 2 N
text: +

## 875105359001
designator C?, comment 10µF  (value not drawn)
WCAP-PSLP Aluminum Polymer Capacitor, V-Chip SMT, D5 x H5.8mm, 10µF, 16V; Manufacturer Part Number: 875105359001; Manufacturer: Wurth Elektronik; Capacitance Tolerance: +/-20%; Dissipation Factor: 8%; Endurance: 2000h; ESR: 30mΩ; Leakage Current: 400µA; Ripple Current: 2200mA; Technical Reference: PSEC058100M016DVCTBB000; Category: Aluminum Polymer Capacitors; Match Code: WCAP-PSLP; ComponentLink1Description: Website Link; ComponentLink1URL: https://www.we-online.com/redexpert/article/875105359001?ad; ComponentLink2Description: Datasheet Link; ComponentLink2URL: https://www.we-online.com/redexpert/spec/875105359001?ad; Mount: Surface Mount; Operating Temperature Max: 105°C; Operating Temperature Min: -55°C; Packaging: Tape and Reel; Height: 5.8mm; Diameter: 5mm; Capacitance: 10µF; Rated Voltage (DC): 16V
footprint WCAP-PSLP_D5H5.8
simulation model 875105359001_10uF
pins: 1 P, 2 N
text: +

## 875105359002
designator C?, comment 15µF  (value not drawn)
WCAP-PSLP Aluminum Polymer Capacitor, V-Chip SMT, D5 x H5.8mm, 15µF, 16V; Manufacturer Part Number: 875105359002; Manufacturer: Wurth Elektronik; Capacitance Tolerance: +/-20%; Dissipation Factor: 8%; Endurance: 2000h; ESR: 30mΩ; Leakage Current: 400µA; Ripple Current: 2200mA; Technical Reference: PSEC058150M016DVCTBB000; Category: Aluminum Polymer Capacitors; Match Code: WCAP-PSLP; ComponentLink1Description: Website Link; ComponentLink1URL: https://www.we-online.com/redexpert/article/875105359002?ad; ComponentLink2Description: Datasheet Link; ComponentLink2URL: https://www.we-online.com/redexpert/spec/875105359002?ad; Mount: Surface Mount; Operating Temperature Max: 105°C; Operating Temperature Min: -55°C; Packaging: Tape and Reel; Height: 5.8mm; Diameter: 5mm; Capacitance: 15µF; Rated Voltage (DC): 16V
footprint WCAP-PSLP_D5H5.8
simulation model 875105359002_15uF
pins: 1 P, 2 N
text: +

## 875105359003
designator C?, comment 22µF  (value not drawn)
WCAP-PSLP Aluminum Polymer Capacitor, V-Chip SMT, D5 x H5.8mm, 22µF, 16V; Manufacturer Part Number: 875105359003; Manufacturer: Wurth Elektronik; Capacitance Tolerance: +/-20%; Dissipation Factor: 8%; Endurance: 2000h; ESR: 30mΩ; Leakage Current: 400µA; Ripple Current: 2200mA; Technical Reference: PSEC058220M016DVCTBB000; Category: Aluminum Polymer Capacitors; Match Code: WCAP-PSLP; ComponentLink1Description: Website Link; ComponentLink1URL: https://www.we-online.com/redexpert/article/875105359003?ad; ComponentLink2Description: Datasheet Link; ComponentLink2URL: https://www.we-online.com/redexpert/spec/875105359003?ad; Mount: Surface Mount; Operating Temperature Max: 105°C; Operating Temperature Min: -55°C; Packaging: Tape and Reel; Height: 5.8mm; Diameter: 5mm; Capacitance: 22µF; Rated Voltage (DC): 16V
footprint WCAP-PSLP_D5H5.8
simulation model 875105359003_22uF
pins: 1 P, 2 N
text: +

## 875105359004
designator C?, comment 33µF  (value not drawn)
WCAP-PSLP Aluminum Polymer Capacitor, V-Chip SMT, D5 x H5.8mm, 33µF, 16V; Manufacturer Part Number: 875105359004; Manufacturer: Wurth Elektronik; Capacitance Tolerance: +/-20%; Dissipation Factor: 8%; Endurance: 2000h; ESR: 30mΩ; Leakage Current: 400µA; Ripple Current: 2200mA; Technical Reference: PSEC058330M016DVCTBB000; Category: Aluminum Polymer Capacitors; Match Code: WCAP-PSLP; ComponentLink1Description: Website Link; ComponentLink1URL: https://www.we-online.com/redexpert/article/875105359004?ad; ComponentLink2Description: Datasheet Link; ComponentLink2URL: https://www.we-online.com/redexpert/spec/875105359004?ad; Mount: Surface Mount; Operating Temperature Max: 105°C; Operating Temperature Min: -55°C; Packaging: Tape and Reel; Height: 5.8mm; Diameter: 5mm; Capacitance: 33µF; Rated Voltage (DC): 16V
footprint WCAP-PSLP_D5H5.8
simulation model 875105359004_33uF
pins: 1 P, 2 N
text: +

## 875105359005
designator C?, comment 39µF  (value not drawn)
WCAP-PSLP Aluminum Polymer Capacitor, V-Chip SMT, D5 x H5.8mm, 39µF, 16V; Manufacturer Part Number: 875105359005; Manufacturer: Wurth Elektronik; Capacitance Tolerance: +/-20%; Dissipation Factor: 8%; Endurance: 2000h; ESR: 30mΩ; Leakage Current: 400µA; Ripple Current: 2200mA; Technical Reference: PSEC058390M016DVCTBB000; Category: Aluminum Polymer Capacitors; Match Code: WCAP-PSLP; ComponentLink1Description: Website Link; ComponentLink1URL: https://www.we-online.com/redexpert/article/875105359005?ad; ComponentLink2Description: Datasheet Link; ComponentLink2URL: https://www.we-online.com/redexpert/spec/875105359005?ad; Mount: Surface Mount; Operating Temperature Max: 105°C; Operating Temperature Min: -55°C; Packaging: Tape and Reel; Height: 5.8mm; Diameter: 5mm; Capacitance: 39µF; Rated Voltage (DC): 16V
footprint WCAP-PSLP_D5H5.8
simulation model 875105359005_39uF
pins: 1 P, 2 N
text: +

## 875105444001
designator C?, comment 10µF  (value not drawn)
WCAP-PSLP Aluminum Polymer Capacitor, V-Chip SMT, D6.3 x H5.8mm, 10µF, 20V; Manufacturer Part Number: 875105444001; Manufacturer: Wurth Elektronik; Capacitance Tolerance: +/-20%; Dissipation Factor: 8%; Endurance: 2000h; ESR: 30mΩ; Leakage Current: 600µA; Ripple Current: 2200mA; Technical Reference: PSED058100M020DVCTBB000; Category: Aluminum Polymer Capacitors; Match Code: WCAP-PSLP; ComponentLink1Description: Website Link; ComponentLink1URL: https://www.we-online.com/redexpert/article/875105444001?ad; ComponentLink2Description: Datasheet Link; ComponentLink2URL: https://www.we-online.com/redexpert/spec/875105444001?ad; Mount: Surface Mount; Operating Temperature Max: 105°C; Operating Temperature Min: -55°C; Packaging: Tape and Reel; Height: 5.8mm; Diameter: 6.3mm; Capacitance: 10µF; Rated Voltage (DC): 20V
footprint WCAP-PSLP_D6.3H5.8
simulation model 875105444001_10uF
pins: 1 P, 2 N
text: +

## 875105444002
designator C?, comment 15µF  (value not drawn)
WCAP-PSLP Aluminum Polymer Capacitor, V-Chip SMT, D6.3 x H5.8mm, 15µF, 20V; Manufacturer Part Number: 875105444002; Manufacturer: Wurth Elektronik; Capacitance Tolerance: +/-20%; Dissipation Factor: 8%; Endurance: 2000h; ESR: 30mΩ; Leakage Current: 600µA; Ripple Current: 2200mA; Technical Reference: PSED058150M020DVCTBB000; Category: Aluminum Polymer Capacitors; Match Code: WCAP-PSLP; ComponentLink1Description: Website Link; ComponentLink1URL: https://www.we-online.com/redexpert/article/875105444002?ad; ComponentLink2Description: Datasheet Link; ComponentLink2URL: https://www.we-online.com/redexpert/spec/875105444002?ad; Mount: Surface Mount; Operating Temperature Max: 105°C; Operating Temperature Min: -55°C; Packaging: Tape and Reel; Height: 5.8mm; Diameter: 6.3mm; Capacitance: 15µF; Rated Voltage (DC): 20V
footprint WCAP-PSLP_D6.3H5.8
simulation model 875105444002_15uF
pins: 1 P, 2 N
text: +

## 875105444003
designator C?, comment 22µF  (value not drawn)
WCAP-PSLP Aluminum Polymer Capacitor, V-Chip SMT, D6.3 x H5.8mm, 22µF, 20V; Manufacturer Part Number: 875105444003; Manufacturer: Wurth Elektronik; Capacitance Tolerance: +/-20%; Dissipation Factor: 8%; Endurance: 2000h; ESR: 30mΩ; Leakage Current: 600µA; Ripple Current: 2200mA; Technical Reference: PSED058220M020DVCTBB000; Category: Aluminum Polymer Capacitors; Match Code: WCAP-PSLP; ComponentLink1Description: Website Link; ComponentLink1URL: https://www.we-online.com/redexpert/article/875105444003?ad; ComponentLink2Description: Datasheet Link; ComponentLink2URL: https://www.we-online.com/redexpert/spec/875105444003?ad; Mount: Surface Mount; Operating Temperature Max: 105°C; Operating Temperature Min: -55°C; Packaging: Tape and Reel; Height: 5.8mm; Diameter: 6.3mm; Capacitance: 22µF; Rated Voltage (DC): 20V
footprint WCAP-PSLP_D6.3H5.8
simulation model 875105444003_22uF
pins: 1 P, 2 N
text: +

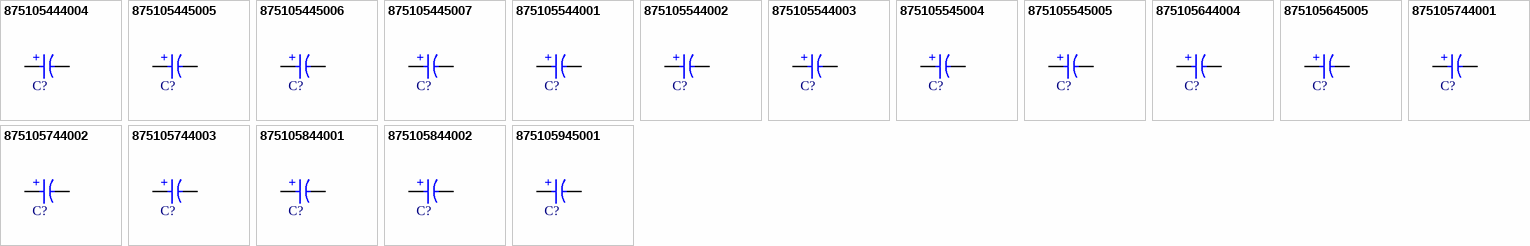
[diagram p1: symbols 875105444004 to 875105945001]

## 875105444004
designator C?, comment 33µF  (value not drawn)
WCAP-PSLP Aluminum Polymer Capacitor, V-Chip SMT, D6.3 x H5.8mm, 33µF, 20V; Manufacturer Part Number: 875105444004; Manufacturer: Wurth Elektronik; Capacitance Tolerance: +/-20%; Dissipation Factor: 8%; Endurance: 2000h; ESR: 30mΩ; Leakage Current: 600µA; Ripple Current: 2200mA; Technical Reference: PSED058330M020DVCTBB000; Category: Aluminum Polymer Capacitors; Match Code: WCAP-PSLP; ComponentLink1Description: Website Link; ComponentLink1URL: https://www.we-online.com/redexpert/article/875105444004?ad; ComponentLink2Description: Datasheet Link; ComponentLink2URL: https://www.we-online.com/redexpert/spec/875105444004?ad; Mount: Surface Mount; Operating Temperature Max: 105°C; Operating Temperature Min: -55°C; Packaging: Tape and Reel; Height: 5.8mm; Diameter: 6.3mm; Capacitance: 33µF; Rated Voltage (DC): 20V
footprint WCAP-PSLP_D6.3H5.8
simulation model 875105444004_33uF
pins: 1 P, 2 N
text: +

## 875105445005
designator C?, comment 39µF  (value not drawn)
WCAP-PSLP Aluminum Polymer Capacitor, V-Chip SMT, D6.3 x H7.7mm, 39µF, 20V; Manufacturer Part Number: 875105445005; Manufacturer: Wurth Elektronik; Capacitance Tolerance: +/-20%; Dissipation Factor: 8%; Endurance: 2000h; ESR: 25mΩ; Leakage Current: 600µA; Ripple Current: 2670mA; Technical Reference: PSED077390M020DVCTCB000; Category: Aluminum Polymer Capacitors; Match Code: WCAP-PSLP; ComponentLink1Description: Website Link; ComponentLink1URL: https://www.we-online.com/redexpert/article/875105445005?ad; ComponentLink2Description: Datasheet Link; ComponentLink2URL: https://www.we-online.com/redexpert/spec/875105445005?ad; Mount: Surface Mount; Operating Temperature Max: 105°C; Operating Temperature Min: -55°C; Packaging: Tape and Reel; Height: 7.7mm; Diameter: 6.3mm; Capacitance: 39µF; Rated Voltage (DC): 20V
footprint WCAP-PSLP_D6.3H7.7
simulation model 875105445005_39uF
pins: 1 P, 2 N
text: +

## 875105445006
designator C?, comment 47µF  (value not drawn)
WCAP-PSLP Aluminum Polymer Capacitor, V-Chip SMT, D6.3 x H7.7mm, 47µF, 20V; Manufacturer Part Number: 875105445006; Manufacturer: Wurth Elektronik; Capacitance Tolerance: +/-20%; Dissipation Factor: 8%; Endurance: 2000h; ESR: 25mΩ; Leakage Current: 600µA; Ripple Current: 2670mA; Technical Reference: PSED077470M020DVCTCB000; Category: Aluminum Polymer Capacitors; Match Code: WCAP-PSLP; ComponentLink1Description: Website Link; ComponentLink1URL: https://www.we-online.com/redexpert/article/875105445006?ad; ComponentLink2Description: Datasheet Link; ComponentLink2URL: https://www.we-online.com/redexpert/spec/875105445006?ad; Mount: Surface Mount; Operating Temperature Max: 105°C; Operating Temperature Min: -55°C; Packaging: Tape and Reel; Height: 7.7mm; Diameter: 6.3mm; Capacitance: 47µF; Rated Voltage (DC): 20V
footprint WCAP-PSLP_D6.3H7.7
simulation model 875105445006_47uF
pins: 1 P, 2 N
text: +

## 875105445007
designator C?, comment 56µF  (value not drawn)
WCAP-PSLP Aluminum Polymer Capacitor, V-Chip SMT, D6.3 x H7.7mm, 56µF, 20V; Manufacturer Part Number: 875105445007; Manufacturer: Wurth Elektronik; Capacitance Tolerance: +/-20%; Dissipation Factor: 8%; Endurance: 2000h; ESR: 25mΩ; Leakage Current: 600µA; Ripple Current: 2670mA; Technical Reference: PSED077560M020DVCTCB000; Category: Aluminum Polymer Capacitors; Match Code: WCAP-PSLP; ComponentLink1Description: Website Link; ComponentLink1URL: https://www.we-online.com/redexpert/article/875105445007?ad; ComponentLink2Description: Datasheet Link; ComponentLink2URL: https://www.we-online.com/redexpert/spec/875105445007?ad; Mount: Surface Mount; Operating Temperature Max: 105°C; Operating Temperature Min: -55°C; Packaging: Tape and Reel; Height: 7.7mm; Diameter: 6.3mm; Capacitance: 56µF; Rated Voltage (DC): 20V
footprint WCAP-PSLP_D6.3H7.7
simulation model 875105445007_56uF
pins: 1 P, 2 N
text: +

## 875105544001
designator C?, comment 10µF  (value not drawn)
WCAP-PSLP Aluminum Polymer Capacitor, V-Chip SMT, D6.3 x H5.8mm, 10µF, 25V; Manufacturer Part Number: 875105544001; Manufacturer: Wurth Elektronik; Capacitance Tolerance: +/-20%; Dissipation Factor: 8%; Endurance: 2000h; ESR: 30mΩ; Leakage Current: 600µA; Ripple Current: 2200mA; Technical Reference: PSED058100M025DVCTBB000; Category: Aluminum Polymer Capacitors; Match Code: WCAP-PSLP; ComponentLink1Description: Website Link; ComponentLink1URL: https://www.we-online.com/redexpert/article/875105544001?ad; ComponentLink2Description: Datasheet Link; ComponentLink2URL: https://www.we-online.com/redexpert/spec/875105544001?ad; Mount: Surface Mount; Operating Temperature Max: 105°C; Operating Temperature Min: -55°C; Packaging: Tape and Reel; Height: 5.8mm; Diameter: 6.3mm; Capacitance: 10µF; Rated Voltage (DC): 25V
footprint WCAP-PSLP_D6.3H5.8
simulation model 875105544001_10uF
pins: 1 P, 2 N
text: +

## 875105544002
designator C?, comment 15µF  (value not drawn)
WCAP-PSLP Aluminum Polymer Capacitor, V-Chip SMT, D6.3 x H5.8mm, 15µF, 25V; Manufacturer Part Number: 875105544002; Manufacturer: Wurth Elektronik; Capacitance Tolerance: +/-20%; Dissipation Factor: 8%; Endurance: 2000h; ESR: 30mΩ; Leakage Current: 600µA; Ripple Current: 2200mA; Technical Reference: PSED058150M025DVCTBB000; Category: Aluminum Polymer Capacitors; Match Code: WCAP-PSLP; ComponentLink1Description: Website Link; ComponentLink1URL: https://www.we-online.com/redexpert/article/875105544002?ad; ComponentLink2Description: Datasheet Link; ComponentLink2URL: https://www.we-online.com/redexpert/spec/875105544002?ad; Mount: Surface Mount; Operating Temperature Max: 105°C; Operating Temperature Min: -55°C; Packaging: Tape and Reel; Height: 5.8mm; Diameter: 6.3mm; Capacitance: 15µF; Rated Voltage (DC): 25V
footprint WCAP-PSLP_D6.3H5.8
simulation model 875105544002_15uF
pins: 1 P, 2 N
text: +

## 875105544003
designator C?, comment 22µF  (value not drawn)
WCAP-PSLP Aluminum Polymer Capacitor, V-Chip SMT, D6.3 x H5.8mm, 22µF, 25V; Manufacturer Part Number: 875105544003; Manufacturer: Wurth Elektronik; Capacitance Tolerance: +/-20%; Dissipation Factor: 8%; Endurance: 2000h; ESR: 30mΩ; Leakage Current: 600µA; Ripple Current: 2200mA; Technical Reference: PSED058220M025DVCTBB000; Category: Aluminum Polymer Capacitors; Match Code: WCAP-PSLP; ComponentLink1Description: Website Link; ComponentLink1URL: https://www.we-online.com/redexpert/article/875105544003?ad; ComponentLink2Description: Datasheet Link; ComponentLink2URL: https://www.we-online.com/redexpert/spec/875105544003?ad; Mount: Surface Mount; Operating Temperature Max: 105°C; Operating Temperature Min: -55°C; Packaging: Tape and Reel; Height: 5.8mm; Diameter: 6.3mm; Capacitance: 22µF; Rated Voltage (DC): 25V
footprint WCAP-PSLP_D6.3H5.8
simulation model 875105544003_22uF
pins: 1 P, 2 N
text: +

## 875105545004
designator C?, comment 33µF  (value not drawn)
WCAP-PSLP Aluminum Polymer Capacitor, V-Chip SMT, D6.3 x H7.7mm, 33µF, 25V; Manufacturer Part Number: 875105545004; Manufacturer: Wurth Elektronik; Capacitance Tolerance: +/-20%; Dissipation Factor: 8%; Endurance: 2000h; ESR: 25mΩ; Leakage Current: 600µA; Ripple Current: 2670mA; Technical Reference: PSED077330M025DVCTCB000; Category: Aluminum Polymer Capacitors; Match Code: WCAP-PSLP; ComponentLink1Description: Website Link; ComponentLink1URL: https://www.we-online.com/redexpert/article/875105545004?ad; ComponentLink2Description: Datasheet Link; ComponentLink2URL: https://www.we-online.com/redexpert/spec/875105545004?ad; Mount: Surface Mount; Operating Temperature Max: 105°C; Operating Temperature Min: -55°C; Packaging: Tape and Reel; Height: 7.7mm; Diameter: 6.3mm; Capacitance: 33µF; Rated Voltage (DC): 25V
footprint WCAP-PSLP_D6.3H7.7
simulation model 875105545004_33uF
pins: 1 P, 2 N
text: +

## 875105545005
designator C?, comment 39µF  (value not drawn)
WCAP-PSLP Aluminum Polymer Capacitor, V-Chip SMT, D6.3 x H7.7mm, 39µF, 25V; Manufacturer Part Number: 875105545005; Manufacturer: Wurth Elektronik; Capacitance Tolerance: +/-20%; Dissipation Factor: 8%; Endurance: 2000h; ESR: 25mΩ; Leakage Current: 600µA; Ripple Current: 2670mA; Technical Reference: PSED077390M025DVCTCB000; Category: Aluminum Polymer Capacitors; Match Code: WCAP-PSLP; ComponentLink1Description: Website Link; ComponentLink1URL: https://www.we-online.com/redexpert/article/875105545005?ad; ComponentLink2Description: Datasheet Link; ComponentLink2URL: https://www.we-online.com/redexpert/spec/875105545005?ad; Mount: Surface Mount; Operating Temperature Max: 105°C; Operating Temperature Min: -55°C; Packaging: Tape and Reel; Height: 7.7mm; Diameter: 6.3mm; Capacitance: 39µF; Rated Voltage (DC): 25V
footprint WCAP-PSLP_D6.3H7.7
simulation model 875105545005_39uF
pins: 1 P, 2 N
text: +

## 875105644004
designator C?, comment 18µF  (value not drawn)
WCAP-PSLP Aluminum Polymer Capacitor, V-Chip SMT, D6.3 x H5.8mm, 18µF, 35V; Manufacturer Part Number: 875105644004; Manufacturer: Wurth Elektronik; Capacitance Tolerance: +/-20%; Dissipation Factor: 12%; Endurance: 2000h; ESR: 64mΩ; Leakage Current: 600µA; Ripple Current: 900mA; Technical Reference: PSED058180M035DVCTBB000; Category: Aluminum Polymer Capacitors; Match Code: WCAP-PSLP; ComponentLink1Description: Website Link; ComponentLink1URL: https://www.we-online.com/redexpert/article/875105644004?ad; ComponentLink2Description: Datasheet Link; ComponentLink2URL: https://www.we-online.com/redexpert/spec/875105644004?ad; Mount: Surface Mount; Operating Temperature Max: 105°C; Operating Temperature Min: -55°C; Packaging: Tape and Reel; Height: 5.8mm; Diameter: 6.3mm; Capacitance: 18µF; Rated Voltage (DC): 35V
footprint WCAP-PSLP_D6.3H5.8
simulation model 875105644004_18uF
pins: 1 P, 2 N
text: +

## 875105645005
designator C?, comment 47µF  (value not drawn)
WCAP-PSLP Aluminum Polymer Capacitor, V-Chip SMT, D6.3 x H7.7mm, 47µF, 35V; Manufacturer Part Number: 875105645005; Manufacturer: Wurth Elektronik; Capacitance Tolerance: +/-20%; Dissipation Factor: 12%; Endurance: 2000h; ESR: 50mΩ; Leakage Current: 600µA; Ripple Current: 1600mA; Technical Reference: PSED077470M035DVCTCB000; Category: Aluminum Polymer Capacitors; Match Code: WCAP-PSLP; ComponentLink1Description: Website Link; ComponentLink1URL: https://www.we-online.com/redexpert/article/875105645005?ad; ComponentLink2Description: Datasheet Link; ComponentLink2URL: https://www.we-online.com/redexpert/spec/875105645005?ad; Mount: Surface Mount; Operating Temperature Max: 105°C; Operating Temperature Min: -55°C; Packaging: Tape and Reel; Height: 7.7mm; Diameter: 6.3mm; Capacitance: 47µF; Rated Voltage (DC): 35V
footprint WCAP-PSLP_D6.3H7.7
simulation model 875105645005_47uF
pins: 1 P, 2 N
text: +